# Altium schematic symbol library Maxim.SchLib: 1 symbol
Pins are listed as number, name and electrical type; pins without a type are passive.

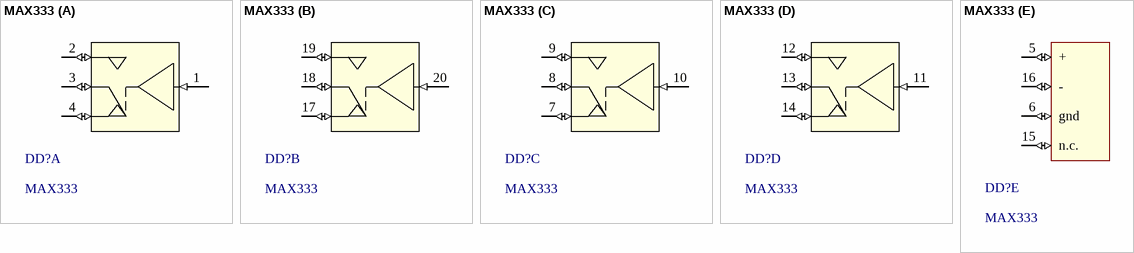
[diagram p0: symbol MAX333]

## MAX333
designator DD?
footprint MAX333-SO20W (SOIC, 20-Leads, Body 12,80x7,50mm, Pitch 1,27mm, IPC Medium Density)
part A pins: 1 (in), 2 (io), 3 (io), 4 (io)
part B pins: 17 (io), 18 (io), 19 (io), 20 (in)
part C pins: 7 (io), 8 (io), 9 (io), 10 (in)
part D pins: 11 (in), 12 (io), 13 (io), 14 (io)
part E pins: 5 + (io), 6 gnd (io), 15 n.c. (io), 16 - (io)